# EAGLE library part EPG.00.303.HLN (library lplemo)
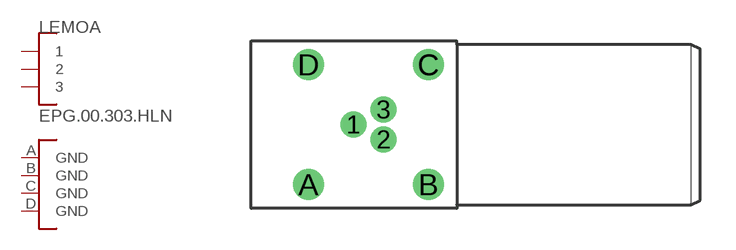
[diagram p1: symbol with the pads of P18-EPG-XBG-XRB.00.303; footprint P18-EPG-XBG-XRB.00.303]

Designator prefix LEMO; gates A=C3 B=GND4

## EPG.00.303.HLN  [P18-EPG-XBG-XRB.00.303]
1  A:1
2  A:2
3  A:3
A  B:GND  pwr
B  B:GND  pwr
C  B:GND  pwr
D  B:GND  pwr

## Footprint P18-EPG-XBG-XRB.00.303 (pad centres in mm)
drill 0.6 round: 1 -3.175,0; 2 -1.905,-0.635; 3 -1.905,0.635
drill 0.8 round: A -5.08,-2.54; B 0,-2.54; C 0,2.54; D -5.08,2.54